# Altium footprint library CL5621AH.PcbLib: 1 footprints
Each footprint in its own frame and in the unit in brackets; x right, y up, seen from the top. Pads: shape width x height; smd on the part's side, far side on the other; paste and mask are expansions set on the pad; w line width, h text height; cw(c..) or ccw(c..) is an arc to the next point about the centre after c.
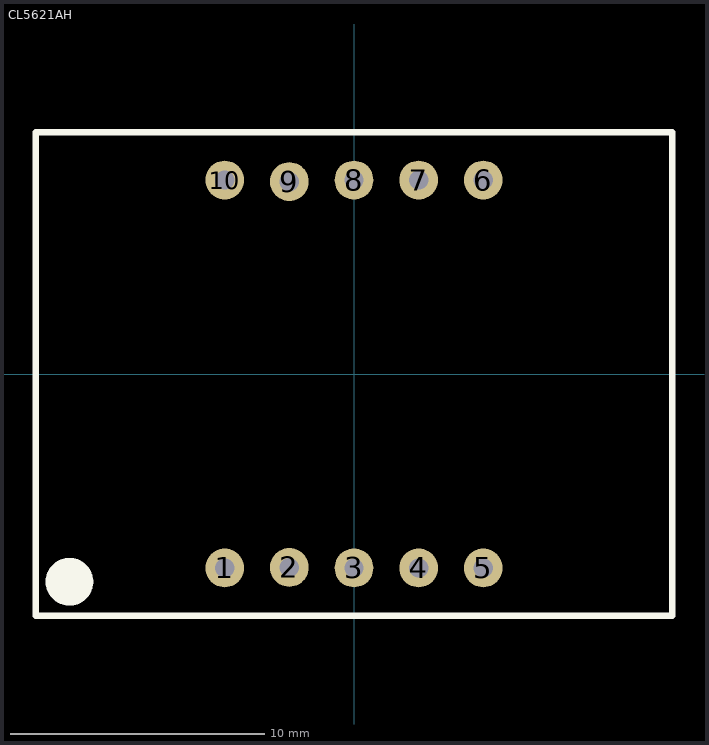
[diagram p0: the footprint, top view; thin cyan lines are the x and y axes]

## CL5621AH [mil] "7 Segment DIsplay 10 Pin Common Cathode"
pads (10):
  round 60 hole 30: 1(-200,-300) 2(-100,-299.21) 3(0,-300) 4(100,-300) 5(200,-300) 6(200,300) 7(100,300) 8(0,300) 9(-100,297.64) 10(-200,300)
Top Overlay:
  circle w39.37: c-440.16,-321.26 r17.27
  lines w10: -492.13,-374.02 492.13,-374.02 492.13,374.02 -492.13,374.02 -492.13,-374.02